# Altium footprint library GolgiBot_V2.02_sinais.PcbLib: 6 footprints
Each footprint in its own frame and in the unit in brackets; x right, y up, seen from the top. Pads: shape width x height; smd on the part's side, far side on the other; paste and mask are expansions set on the pad; w line width, h text height; cw(c..) or ccw(c..) is an arc to the next point about the centre after c.
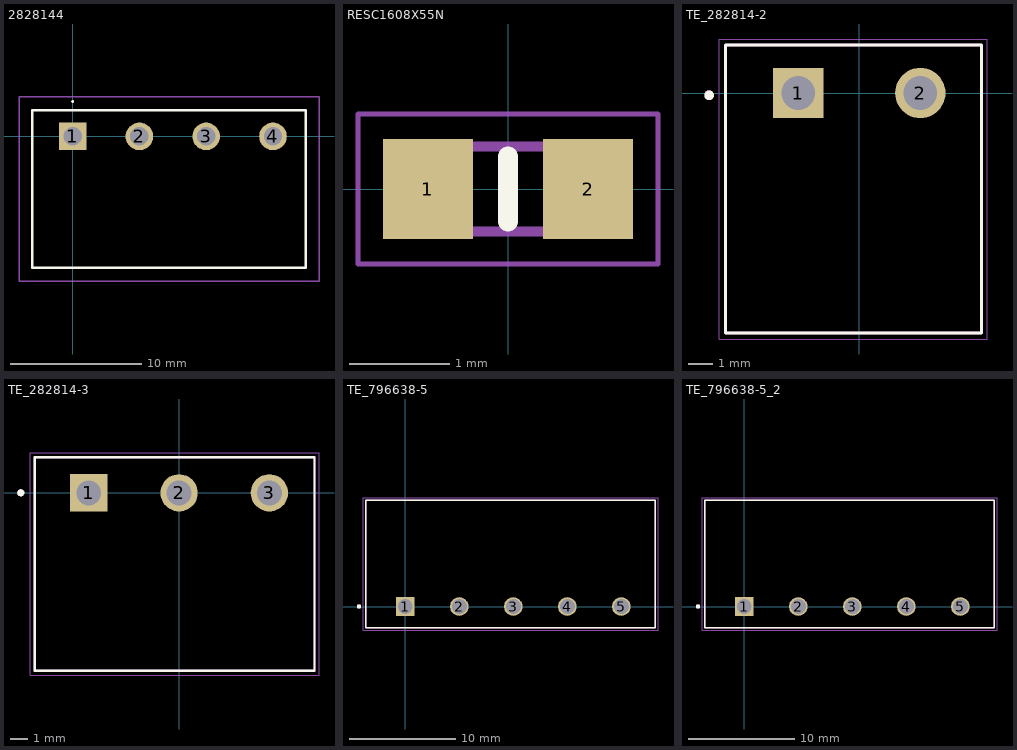
[diagram p0: the footprints below, top view; thin cyan lines are the x and y axes]

## 2828144 [mm]
pads (4):
  rect 2.1x2.1 hole 1.4: 1(0,0)
  round 2.1 hole 1.4: 2(5.08,0) 3(10.16,0) 4(15.24,0)
Top Overlay:
  lines w0.1: 0,2.6 cw(c0,2.65) 0,2.7 cw(c0,2.65) 0,2.6
  lines w0.2: -3.08,-10 -3.08,2 17.74,2 17.74,-10 -3.08,-10
Mechanical 13:
  lines w0.1: -3.08,-10 -3.08,2 17.74,2 17.74,-10 -3.08,-10
Mechanical 15:
  lines w0.1: -4.08,-11 -4.08,3 18.74,3 18.74,-11 -4.08,-11
3D body "282814-4.stp": height 7.85, standoff -4, extent -3.048,-10.064 17.772,1.936

## RESC1608X55N [mm]
pads (2):
  rect 0.9x1 smd: 1(-0.8,0) 2(0.8,0)
Top Overlay:
  lines w0.2: 0,-0.325 0,0.325
Mechanical 13:
  lines w0.1: -0.8,-0.425 0.8,-0.425 0.8,0.425 -0.8,0.425 -0.8,-0.425
Mechanical 15:
  lines w0.05: -1.5,-0.75 1.5,-0.75 1.5,0.75 -1.5,0.75 -1.5,-0.75
3D body "ERJ-3EKF1001V.stp": height 0.45, standoff 0, extent -0.8,-0.4 0.8,0.4

## TE_282814-2 [mm]
pads (2):
  rect 2.1x2.1 hole 1.4: 1(-2.54,0)
  round 2.1 hole 1.4: 2(2.54,0)
Top Overlay:
  circle w0.2: c-6.262,-0.094 r0.1
  lines w0.127: -5.58,-10 5.08,-10 5.08,2 -5.58,2 -5.58,-10
Mechanical 13:
  circle w0.2: c-6.262,-0.094 r0.1
  lines w0.127: -5.58,-10 -5.58,2 5.08,2 5.08,-10 -5.58,-10
Mechanical 15:
  lines w0.05: -5.83,-10.25 -5.83,2.25 5.33,2.25 5.33,-10.25 -5.83,-10.25
3D body "282814-2--3DModel-STEP-1.STEP": height 4.5, standoff -7.35, extent -5.58,-10.064 5.08,1.936

## TE_282814-3 [mm]
pads (3):
  rect 2.1x2.1 hole 1.4: 1(-5.08,0)
  round 2.1 hole 1.4: 2(0,0) 3(5.08,0)
Top Overlay:
  circle w0.2: c-8.902,0.006 r0.1
  lines w0.127: -8.12,-10 -8.12,2 7.62,2 7.62,-10 -8.12,-10
Mechanical 13:
  circle w0.2: c-8.902,0.006 r0.1
  lines w0.127: -8.12,-10 7.62,-10 7.62,2 -8.12,2 -8.12,-10
Mechanical 15:
  lines w0.05: -8.37,-10.25 7.87,-10.25 7.87,2.25 -8.37,2.25 -8.37,-10.25
3D body "282814-3--3DModel-STEP-1.STEP": height 4.5, standoff -7.35, extent -8.128,-10.064 7.612,1.936

## TE_796638-5 [mm]
pads (5):
  rect 1.75x1.75 hole 1.4: 1(0,0)
  round 1.75 hole 1.4: 2(5.08,0) 3(10.16,0) 4(15.24,0) 5(20.32,0)
Top Overlay:
  circle w0.2: c-4.35,0 r0.1
  lines w0.127: -3.7,-2 -3.7,10 23.52,10 23.52,-2 -3.7,-2
Mechanical 13:
  circle w0.2: c-4.35,0 r0.1
  lines w0.127: -3.7,-2 -3.7,10 ; -3.7,-2 23.52,-2 ; -3.7,-2 -3.7,10 ; -3.7,10 23.52,10 ; -3.7,10 23.52,10 ; 23.52,-2 23.52,10 ; 23.52,-2 23.52,10
Mechanical 15:
  lines w0.05: -3.95,-2.25 -3.95,10.25 23.77,10.25 23.77,-2.25 -3.95,-2.25
3D body "step_temp.STEP": height 4.5, standoff -7.35, extent -3.704,-2.032 23.516,9.968

## TE_796638-5_2 [mm]
pads (5):
  rect 1.75x1.75 hole 1.4: 1(0,0)
  round 1.75 hole 1.4: 2(5.08,0) 3(10.16,0) 4(15.24,0) 5(20.32,0)
Top Overlay:
  circle w0.2: c-4.35,0 r0.1
  lines w0.127: -3.7,-2 23.52,-2 23.52,10 -3.7,10 -3.7,-2
Mechanical 13:
  circle w0.2: c-4.35,0 r0.1
  lines w0.127: -3.7,-2 -3.7,10 ; -3.7,-2 23.52,-2 ; -3.7,-2 -3.7,10 ; -3.7,10 23.52,10 ; -3.7,10 23.52,10 ; 23.52,-2 23.52,10 ; 23.52,-2 23.52,10
Mechanical 15:
  lines w0.05: -3.95,-2.25 23.77,-2.25 23.77,10.25 -3.95,10.25 -3.95,-2.25
3D body "step_temp.STEP": height 4.5, standoff -7.35, extent -3.704,-2.032 23.516,9.968